# Altium schematic symbol library Humidity Regulator.SCHLIB: 37 symbols
Pins are listed as number, name and electrical type; pins without a type are passive.

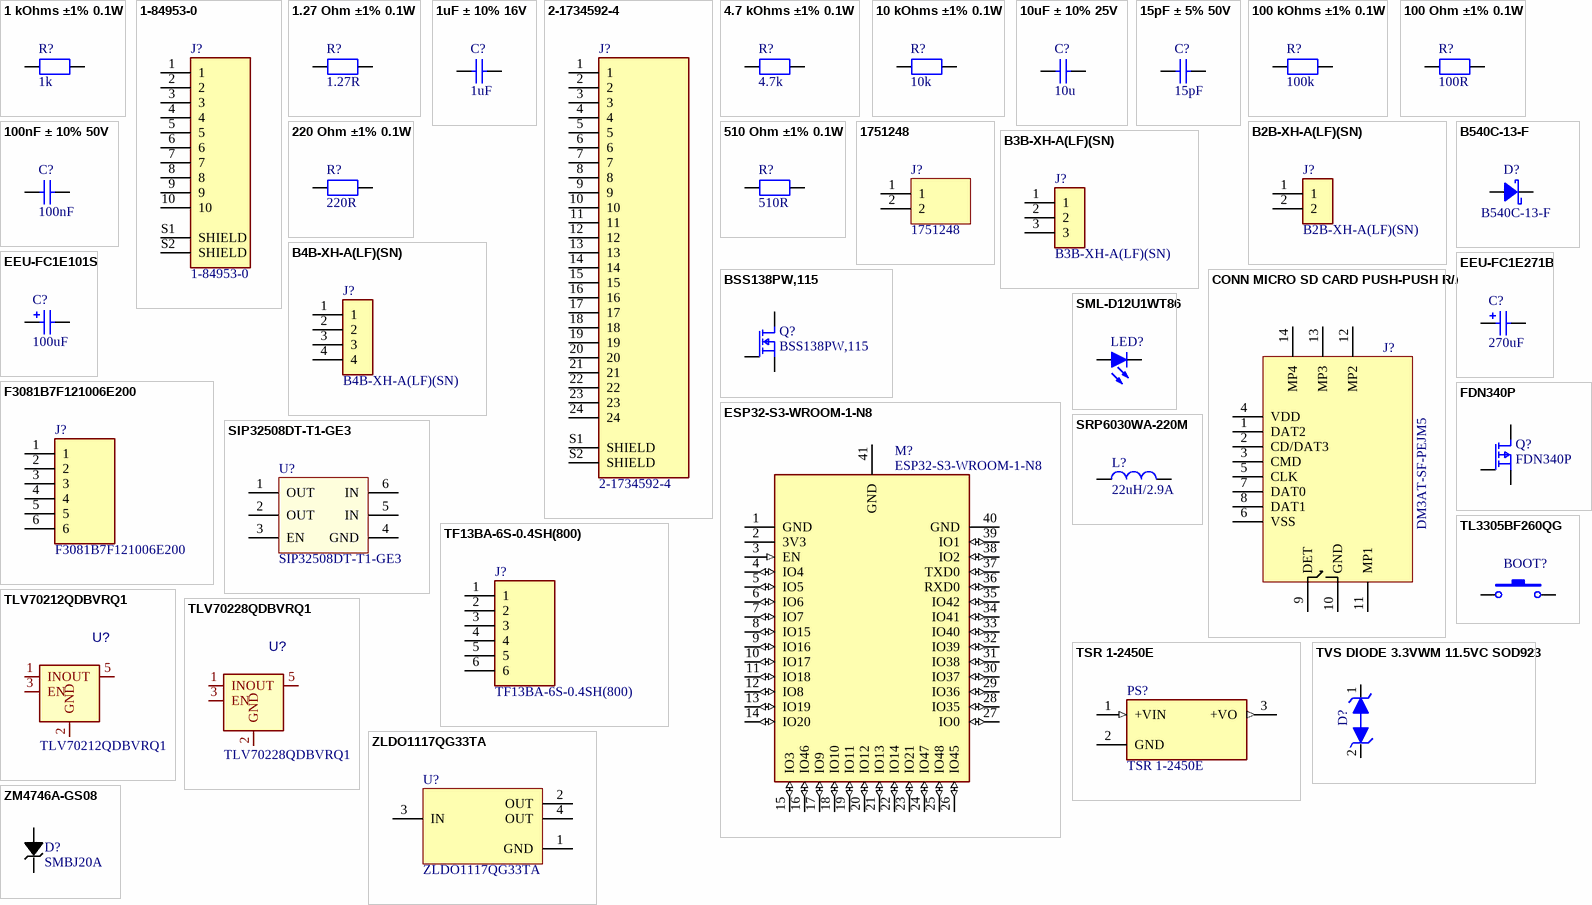
[diagram p0: symbols 1 kOhms ±1% 0.1W to ZM4746A-GS08]

## 1 kOhms ±1% 0.1W
designator R?, comment 1k
1 kOhms ±1% 0.1W; Manufacturer: Yageo; Manufacturer Part Number: RC0603FR-071KL; Value: 1k; Supplier: Mouser; Supplier Part Number: 603-RC0603FR-071KL; Price: 0.1
footprint R0603 (Footprint not found)
pins: 1, 2

## 1-84953-0
designator J?
FFC & FPC Connectors 1MM CONT ASSY 10P; Manufacturer: TE Connectivity; Manufacturer Part Number: 1-84953-0; Price: 1.05; Value: 1-84953-0; Supplier: Mouser; Supplier Part Number: 571-1-84953-0
footprint TE_1-84953-0
pins: 1, 2, 3, 4, 5, 6, 7, 8, 9, 10, S1 SHIELD, S2 SHIELD

## 1.27 Ohm ±1% 0.1W
designator R?, comment 1.27R
1.27 Ohm ±1% 0.1W; Manufacturer: Yageo; Manufacturer Part Number: RC0603FR-071R27L; Value: 1.27R; Supplier: Mouser; Supplier Part Number: 603-RC0603FR-071R27L; Price: 0.1
footprint R0603 (Footprint not found)
pins: 1, 2

## 1uF ± 10% 16V
designator C?, comment 1uF
1uF ± 10% 16V; Manufacturer: Yageo; Manufacturer Part Number: CC0603KRX5R7BB105; Value: 1uF; Supplier: Mouser; Supplier Part Number: 603-CC603KRX5R7BB105; Price: 0.1
footprint C0603 (Footprint not found)
pins: 1, 2

## 2-1734592-4
designator J?
24 Position FPC Connector Contacts, Bottom 0.020" _0.50mm_ Surface Mount, Right Angle; Manufacturer: TE Connectivity; Manufacturer Part Number: 2-1734592-4; Value: 2-1734592-4; Price: 1.32; Supplier: Mouser; Supplier Part Number: 571-2-1734592-4
footprint TE_2-1734592-4
pins: 1, 2, 3, 4, 5, 6, 7, 8, 9, 10, 11, 12, 13, 14, 15, 16, 17, 18, 19, 20, 21, 22, 23, 24, S1 SHIELD, S2 SHIELD

## 4.7 kOhms ±1% 0.1W
designator R?, comment 4.7k
4.7 kOhms ±1% 0.1W; Manufacturer: Yageo; Manufacturer Part Number: RC0603FR-074K7L; Value: 4.7k; Supplier: Mouser; Supplier Part Number: 603-RC0603FR-074K7L; Price: 0.1
footprint R0603 (Footprint not found)
pins: 1, 2

## 10 kOhms ±1% 0.1W
designator R?, comment 10k
10 kOhms ±1% 0.1W; Manufacturer: Yageo; Manufacturer Part Number: RC0603FR-0710KL; Value: 10k; Supplier: Mouser; Supplier Part Number: 603-RC0603FR-0710KL; Price: 0.1
footprint R0603 (Footprint not found)
pins: 1, 2

## 10uF ± 10% 25V
designator C?, comment 10u
10uF ± 10% 25V; Manufacturer: Yageo; Manufacturer Part Number: CC1206KKX7R8BB106; Tolerance: +-10%; Type: X7R; Voltage (V): 25; Category: Capacitor; Value: 10u; Price: 0.44; Supplier: Mouser; Supplier Part Number: 603-CC126KKX7R8BB106
footprint C1206 (CAPACITOR SMD 1206)
pins: 1, 2

## 15pF ± 5% 50V
designator C?, comment 15pF
15pF ± 5% 50V; Manufacturer: Yageo; Manufacturer Part Number: CC0603JRNPO9BN150; Value: 15pF; Supplier: Mouser; Supplier Part Number: 603-CC0603JRNPO9BN150; Price: 0.1
footprint C0603 (CAPACITOR SMD 0603)
pins: 1, 2

## 100 kOhms ±1% 0.1W
designator R?, comment 100k
100 kOhms ±1% 0.1W; Manufacturer: Yageo; Manufacturer Part Number: RC0603FR-07100KL; Value: 100k; Supplier: Mouser; Supplier Part Number: 603-RC0603FR-07100KL; Price: 0.1
footprint R0603 (Footprint not found)
pins: 1, 2

## 100 Ohm ±1% 0.1W
designator R?, comment 100R
100 Ohm ±1% 0.1W; Manufacturer: Yageo; Manufacturer Part Number: RC0603FR-07100RL; Value: 100R; Supplier: Mouser; Supplier Part Number: 603-RC0603FR-07100RL; Price: 0.1
footprint R0603 (Footprint not found)
pins: 1, 2

## 100nF ± 10% 50V
designator C?, comment 100nF
100nF ± 10% 50V; Manufacturer: Yageo; Manufacturer Part Number: CC0603KRX7R9BB104; Value: 100nF; Supplier: Mouser; Supplier Part Number: 603-CC603KRX7R9BB104; Price: 0.1
footprint C0603 (Footprint not found)
pins: 1, 2

## 220 Ohm ±1% 0.1W
designator R?, comment 220R
220 Ohm ±1% 0.1W; Manufacturer: Yageo; Manufacturer Part Number: RC0603FR-07220RL; Value: 220R; Supplier: Mouser; Supplier Part Number: 603-RC0603FR-07220RL; Price: 0.1
footprint R0603 (Footprint not found)
pins: 1, 2

## 510 Ohm ±1% 0.1W
designator R?, comment 510R
510 Ohm ±1% 0.1W; Manufacturer: Yageo; Manufacturer Part Number: RC0603FR-07510RL; Value: 510R; Supplier: Mouser; Supplier Part Number: 603-RC0603FR-07510RL; Price: 0.1
footprint R0603 (Footprint not found)
pins: 1, 2

## 1751248
designator J?
PCB terminal block, 3.5mm pitch, 2 way Phoenix Contact COMBICON MKDS Series 3.5mm Pitch Straight PCB Terminal Block with Screw Termination, Through Hole; Supplier Part Number: 651-1751248; Price: 1.2; Manufacturer: Phoenix Contact; Manufacturer Part Number: 1751248; Supplier: Mouser; Value: 1751248
footprint 1751248
pins: 1, 2

## B2B-XH-A(LF)(SN)
designator J?
Connector Header Through Hole 2 position 0.098 (2.50mm); Manufacturer: JST Sales America Inc.; Value: B2B-XH-A(LF)(SN); Manufacturer Part Number: B2B-XH-A(LF)(SN)
footprint JST_B2B-XH-A(LF)(SN)
pins: 1, 2

## B3B-XH-A(LF)(SN)
designator J?
Connector Header Through Hole 3 position 0.098 (2.50mm); Manufacturer: JST Sales; Value: B3B-XH-A(LF)(SN); Manufacturer Part Number: B3B-XH-A(LF)(SN)
footprint JST_B3B-XH-A(LF)(SN)
pins: 1, 2, 3

## B4B-XH-A(LF)(SN)
designator J?
Connector Header Through Hole 4 position 0.098 (2.50mm); Manufacturer: JST Sales; Manufacturer Part Number: B4B-XH-A(LF)(SN); Value: B4B-XH-A(LF)(SN)
footprint JST_B4B-XH-A(LF)(SN)
pins: 1, 2, 3, 4

## B540C-13-F
designator D?
Schottky Diodes & Rectifiers 40V 5A; Value: B540C-13-F; Manufacturer Part Number: B540C-13-F; Manufacturer: Diodes; Supplier: Mouser; Supplier Part Number: 621-B540C-F; Price: 0.5
footprint DO-214AB2
pins: A, C

## BSS138PW,115
designator Q?
MOSFET, N CH, 60V, 0.2A; Manufacturer: Nexperia; Value: BSS138PW,115; Manufacturer Part Number: BSS138PW,115; Supplier: Mouser; Supplier Part Number: 771-BSS138PW115; Price: 0.3
footprint SOT-23s
footprint SOT323-3 (Footprint not found)
footprint 0402
pins: 1 G, 2 S, 3 D

## CONN MICRO SD CARD PUSH-PUSH R/A
designator J?, comment DM3AT-SF-PEJM5
CONN MICRO SD CARD PUSH-PUSH R/A; Manufacturer: Hirose Electric Co Ltd; Price: 2.8; Supplier: Mouser; Supplier Part Number: 798-DM3AT-SF-PEJM5; Manufacturer Part Number: DM3AT-SF-PEJM5; Value: DM3AT-SF-PEJM5
footprint HIROSE_DM3AT-SF-PEJM5
pins: 1 DAT2, 2 CD/DAT3, 3 CMD, 4 VDD, 5 CLK, 6 VSS, 7 DAT0, 8 DAT1, 9 DET, 10 GND, 11 MP1, 12 MP2, 13 MP3, 14 MP4

## EEU-FC1E101S
designator C?, comment 100uF
CAP ALUM 100UF 20% 25V SMD; Manufacturer Part Number: EEU-FC1E101S; Manufacturer: Panasonic; Value: 100uF; Supplier: Mouser; Supplier Part Number: 667-EEU-FC1E101S; Price: 0.4
footprint CAP_EEUFC1E101S (Footprint not found)
pins: 1, 2
1 alternate drawing of the same symbol

## EEU-FC1E271B
designator C?, comment 270uF
CAP ALUM 270UF 20% 25V SMD; Manufacturer Part Number: EEU-FC1E271B; Manufacturer: Panasonic; Value: 270uF; Supplier: Mouser; Supplier Part Number: 667-EEU-FC1E271B; Price: 0.7
footprint CAP_EEU-FK1E271B
pins: 1, 2
1 alternate drawing of the same symbol

## ESP32-S3-WROOM-1-N8
designator M?
Bluetooth, WiFi 802.11b/g/n, Bluetooth v5.0 Transceiver Module 2.4GHz PCB Trace Surface Mount; Manufacturer: Espressif Systems; Price: 3.45; Value: ESP32-S3-WROOM-1-N8; Supplier Part Number: 356-ESP32-S3WROOM1N8; Manufacturer Part Number: ESP32-S3-WROOM-1-N8; Supplier: Mouser
footprint ESP32-S3-WROOM-1-N8 (Footprint not found)
pins: 1 GND (power), 2 3V3 (power), 3 EN (in), 4 IO4 (io), 5 IO5 (io), 6 IO6 (io), 7 IO7 (io), 8 IO15 (io), 9 IO16 (io), 10 IO17 (io), 11 IO18 (io), 12 IO8 (io), 13 IO19 (io), 14 IO20 (io), 15 IO3 (io), 16 IO46 (io), 17 IO9 (io), 18 IO10 (io), 19 IO11 (io), 20 IO12 (io), 21 IO13 (io), 22 IO14 (io), 23 IO21 (io), 24 IO47 (io), 25 IO48 (io), 26 IO45 (io), 27 IO0 (io), 28 IO35 (io), 29 IO36 (io), 30 IO37 (io), 31 IO38 (io), 32 IO39 (io), 33 IO40 (io), 34 IO41 (io), 35 IO42 (io), 36 RXD0 (io), 37 TXD0 (io), 38 IO2 (io), 39 IO1 (io), 40 GND (power), 41 GND (power)

## F3081B7F121006E200
designator J?
FFC & FPC Connectors F308-1B7F1-21006-E20 #VALUE!; Manufacturer: Amphenol Aorora; Manufacturer Part Number: F3081B7F121006E200; Price: 0.507; Value: F3081B7F121006E200; Supplier: Mouser; Supplier Part Number: 649-F3081B7F006E200
footprint F3081B7F121006E200
pins: 1, 2, 3, 4, 5, 6

## FDN340P
designator Q?
MOSFET SSOT-3 P-CH -20V; Manufacturer: onsemi; Value: FDN340P; Manufacturer Part Number: FDN340P; Supplier: Mouser; Supplier Part Number: 512-FDN340P; Price: 0.46
footprint SOT-23s
footprint SOT23 (SOT23 semtech SM712)
footprint 0402
pins: 1 G, 2 S, 3 D

## SIP32508DT-T1-GE3
designator U?
Power Switch ICs - Power Distribution Slew Rate Controlled Load Switch; Manufacturer: Vishay / Siliconix; Value: SIP32508DT-T1-GE3; Supplier Part Number: 78-SIP32508DT-T1-GE3; Supplier: Mouser; Price: 0.6; Manufacturer Part Number: SIP32508DT-T1-GE3
footprint TSOT23-6 (SOT23 semtech SM712)
pins: 1 OUT, 2 OUT, 3 EN, 4 GND, 5 IN, 6 IN

## SML-D12U1WT86
designator LED?  (value not drawn)
Typical RED GaAs LED; Manufacturer: Rohm Semiconductor; Supplier: Mouser; Supplier Part Number: 755-SML-D12U1WT86; Manufacturer Part Number: SML-D12U1WT86; Value: SML-D12U1WT86; Price: 0.2
footprint LED0603 (Footprint not found)
footprint LED0603
pins: A, C

## SRP6030WA-220M
designator L?, comment 22uH/2.9A
Power Inductors - SMD Ind,7.1x6.6x2.8mm,22uH+/-20%,2.9A,shd; Manufacturer Part Number: SRP6030WA-220M; Manufacturer: Bourns; Value: 22uH/2.9A; Supplier: Mouser; Supplier Part Number: 652-SRP6030WA-220M; Price: 1.2
footprint IND_SRP6030 (Footprint not found)
footprint INDC1608L (Chip Inductor, Body 1.6x0.8mm, IPC High Density)
footprint 2029 (Chip Inductor, Body 2.0x1.2mm, IPC High Density)
footprint 0603 (Chip Inductor, Body 0.6x0.3mm, IPC High Density)
footprint INDC3216 (Chip Inductor, Body 3.2x1.6mm, IPC High Density)
footprint INDC4532 (Chip Inductor, Body 4.5x3.2mm, IPC High Density)
pins: 1, 2

## TF13BA-6S-0.4SH(800)
designator J?
FFC & FPC Connectors; Manufacturer: Hirose Connector; Manufacturer Part Number: TF13BA-6S-0.4SH(800); Price: 1.1; Value: TF13BA-6S-0.4SH(800); Supplier: Mouser; Supplier Part Number: 798-TF13BA-6S04SH800
footprint HRS_TF13BA-6S-0.4SH(800)
pins: 1, 2, 3, 4, 5, 6

## TL3305BF260QG
designator BOOT?  (value not drawn)
SWITCH TACTILE SPST-NO 0.05A 12V; Manufacturer: E-Switch; Value: TL3305BF260QG; Manufacturer Part Number: TL3305BF260QG; Supplier: Mouser; Supplier Part Number: 612-TL3305BF260QG; Price: 0.25
footprint SW_TL3305BF260QG (Footprint not found)
pins: 1, 2

## TLV70212QDBVRQ1
designator U?
LDO Regulator Pos 1.2V 0.3A Automotive 5-Pin SOT-23 T/R; Manufacturer: Texas Instruments; Supplier: Mouser; Manufacturer Part Number: TLV70212QDBVRQ1; Supplier Part Number: 595-TLV70212QDBVRQ1; Price: 0.63; Value: TLV70212QDBVRQ1; ComponentLink1URL: http://www.ti.com/general/docs/suppproductinfo.tsp?distId=10&amp;gotoUrl=http%3A%2F%2Fwww.ti.com%2Flit%2Fgpn%2Ftlv702-q1&src-supplier=Digi-Key; ComponentLink1Description: http://www.ti.com/general/docs/suppproductinfo.tsp?distId=10&amp;gotoUrl=http%3A%2F%2Fwww.ti.com%2Flit%2Fgpn%2Ftlv702-q1&src-supplier=Digi-Key
footprint SOT23-5 (Footprint not found)
pins: 1 IN, 2 GND, 3 EN, 4 NC hidden, 5 OUT

## TLV70228QDBVRQ1
designator U?
LDO Regulator Pos 2.8V 0.3A Automotive 5-Pin SOT-23 T/R; Manufacturer: Texas Instruments; Supplier: Mouser; Manufacturer Part Number: TLV70228QDBVRQ1; Supplier Part Number: 595-TLV70228QDBVRQ1; Price: 0.42; Value: TLV70228QDBVRQ1; ComponentLink1URL: http://www.ti.com/general/docs/suppproductinfo.tsp?distId=10&amp;gotoUrl=http%3A%2F%2Fwww.ti.com%2Flit%2Fgpn%2Ftlv702-q1&src-supplier=Digi-Key; ComponentLink1Description: http://www.ti.com/general/docs/suppproductinfo.tsp?distId=10&amp;gotoUrl=http%3A%2F%2Fwww.ti.com%2Flit%2Fgpn%2Ftlv702-q1&src-supplier=Digi-Key
footprint SOT23-5 (Footprint not found)
pins: 1 IN, 2 GND, 3 EN, 4 NC hidden, 5 OUT

## TSR 1-2450E
designator PS?
2 A Output Current, 6~36 Vdc Input, SIP, Non-Isolated, Dc-Dc Converter; Manufacturer: TRACO Power; Price: 3.7; Supplier: Mouser; Value: TSR 1-2450E; Supplier Part Number: 495-TSR1-2450E; Manufacturer Part Number: TSR 1-2450E
footprint TSR12450E (Footprint not found)
pins: 1 +VIN (in), 2 GND (power), 3 +VO (out)

## TVS DIODE 3.3VWM 11.5VC SOD923
designator D?, comment ESD9B3.3ST5G  (value not drawn)
11.5V Clamp 2A (8/20µs) Ipp Tvs Diode Surface Mount SOD-923; Manufacturer: ON Semiconductor; Manufacturer Part Number: ESD9B3.3ST5G; Value: ESD9B3.3ST5G; Supplier: Mouser; Supplier Part Number: 863-ESD9B3.3ST5G; Price: 0.24
footprint SOD1006X40N_BI (ESD9B3.3ST5G,ESD9B3.3ST5G)
pins: 1 K, 2 A

## ZLDO1117QG33TA
designator U?
LDO Voltage Regulators 1A Low Dropout 1.2V Adj or Fixed; Manufacturer: Diodes Incorporated; Price: 0.63; Manufacturer Part Number: ZLDO1117QG33TA; Supplier Part Number: 621-ZLDO1117QG33TA; Value: ZLDO1117QG33TA; Supplier: Mouser
footprint SOT223-3
pins: 1 GND (power), 2 OUT (power), 3 IN (power), 4 OUT (power)

## ZM4746A-GS08
designator D?, comment SMBJ20A
ESD Suppressors / TVS Diodes 600W, 23.4V, 5%, Unidirectional, TVS; Manufacturer: Littelfuse; Value: SMBJ20A; Manufacturer Part Number: SMBJ20A; Supplier: Mouser; Supplier Part Number: 576-SMBJ20A; Price: 0.35
footprint DO-214AA2
pins: A, C